# Altium footprint library connectors.PcbLib: 53 footprints (part 1 of 4)
Each footprint in its own frame and in the unit in brackets; x right, y up, seen from the top. Pads: shape width x height; smd on the part's side, far side on the other; paste and mask are expansions set on the pad; w line width, h text height; cw(c..) or ccw(c..) is an arc to the next point about the centre after c.
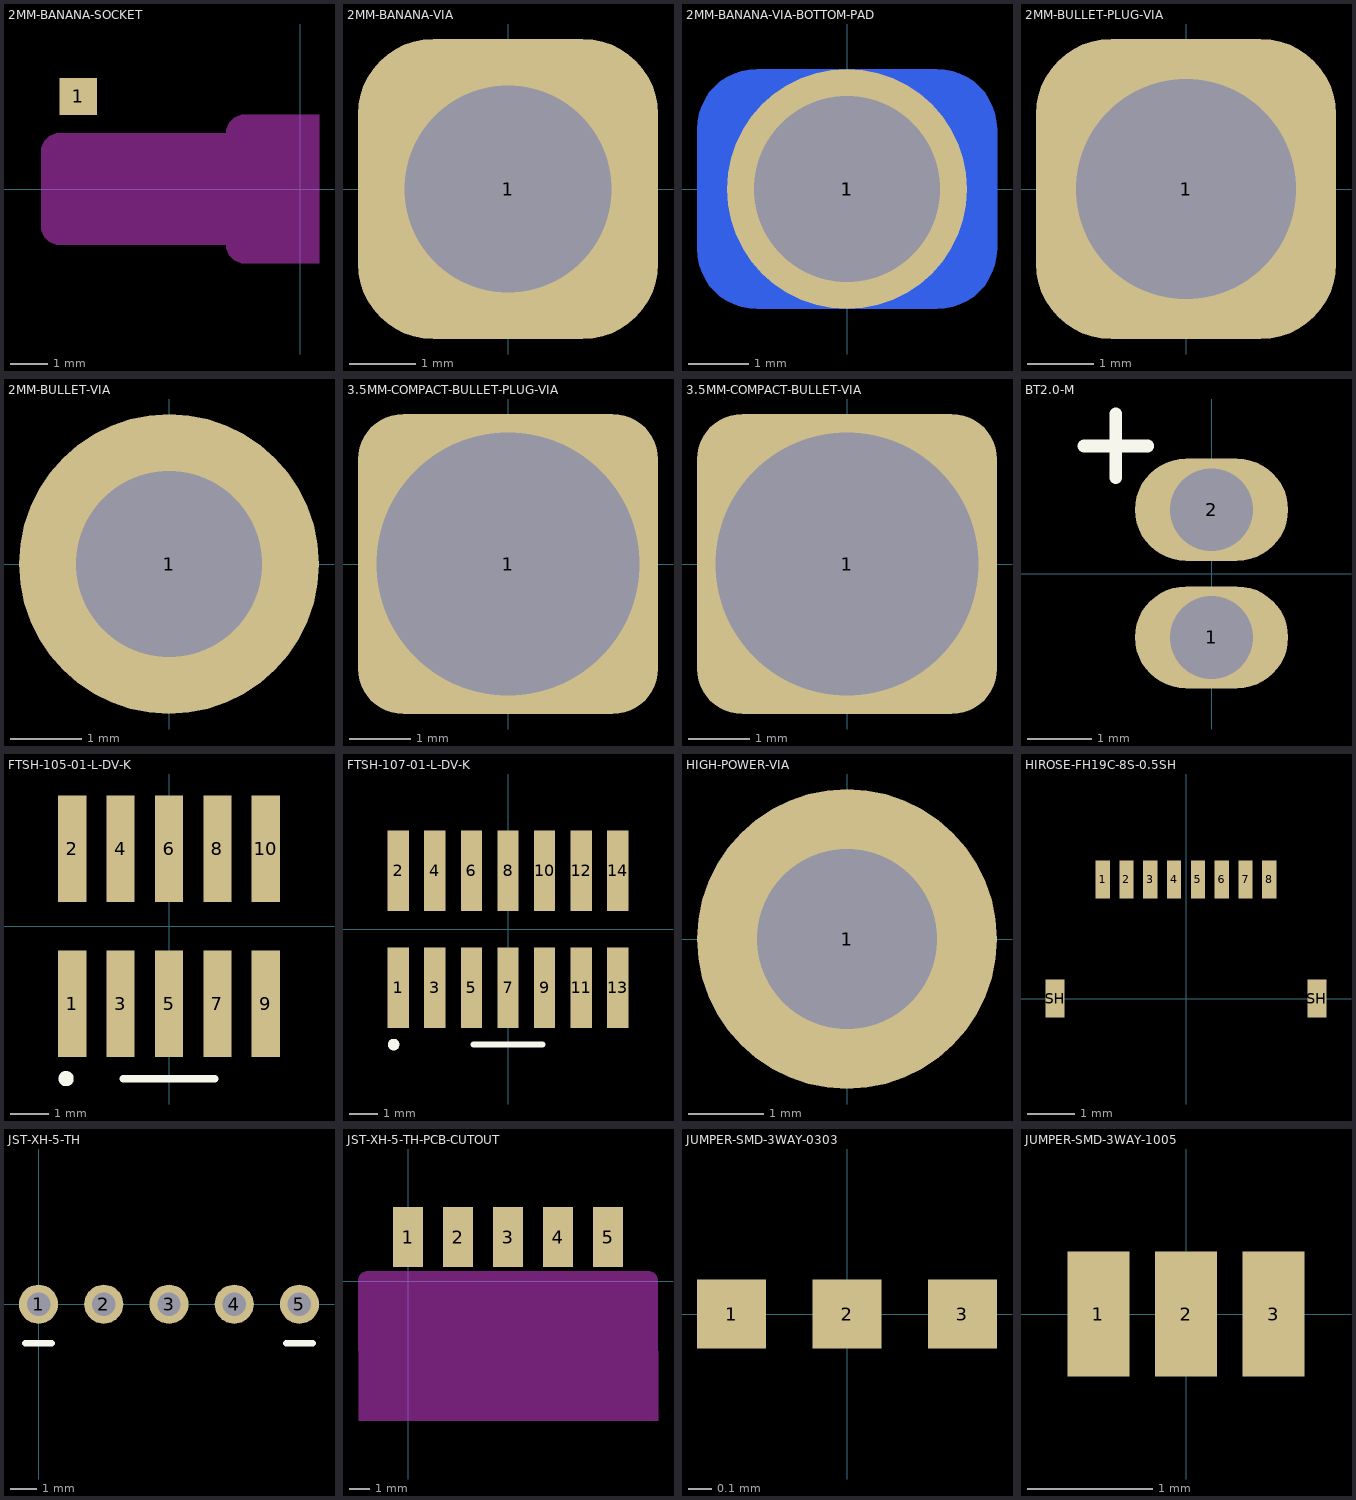
[diagram p0: the footprints below, top view; thin cyan lines are the x and y axes]

## 2MM-BANANA-SOCKET [mm]
pads (1):
  rect 1x1 all layers, no hole: 1(-6,2.5)
Keep-Out Layer:
  board cut-out: 0.5,2 0.5,-2 -1.5,-2 -1.599,-2 -1.783,-1.924 -1.924,-1.783 -2,-1.6 -2,-1.5 -6.5,-1.5 -6.599,-1.5 -6.783,-1.424 -6.924,-1.283 -7,-1.099 -7,-1 -7,1 -7,1.099 -6.924,1.283 -6.783,1.424 -6.599,1.5 -6.5,1.5 -2,1.5 -2,1.599 -1.924,1.783 -1.783,1.924 -1.599,2 -1.5,2
Multi-Layer:
  region: -7,3 -7,1.7 -7.4,1.7 -7.4,-1.7 -7,-1.7 -7,-3 -7.6,-3 -7.6,3
  region: -7.6,1.6 -7.6,3 -0.7,3 -0.7,2.1 -1.6,2.1 -1.698,2.09 -1.878,2.016 -2.016,1.878 -2.09,1.698 -2.1,1.6
  region: -7.6,-1.6 -7.6,-3 -0.7,-3 -0.7,-2.1 -1.6,-2.1 -1.698,-2.09 -1.878,-2.016 -2.016,-1.878 -2.09,-1.698 -2.1,-1.6
3D body "2mm_socket.STEP": height 2, standoff -2, extent -6,-2 0,2

## 2MM-BANANA-VIA [mm]
pads (1):
  rrect50% 4.5x4.5 hole 3.1: 1(0,0)
3D body "2mm_socket.STEP": height 1.51, standoff -4.49, extent -2,-2 2,2

## 2MM-BANANA-VIA-BOTTOM-PAD [mm]
pads (2):
  rrect50% 5x4 smd far side: 1(0,0)
  round 4 hole 3.1: 1(0,0)
3D body "2mm_socket.STEP": height 1.51, standoff -4.49, extent -2,-2 2,2

## 2MM-BULLET-PLUG-VIA [mm]
pads (1):
  rrect50% 4.5x4.5 hole 3.3: 1(0,0)

## 2MM-BULLET-VIA [mm]
pads (1):
  round 4.2 hole 2.6: 1(0,0)

## 3.5MM-COMPACT-BULLET-PLUG-VIA [mm]
pads (1):
  rrect30% 4.9x4.9 hole 4.3: 1(0,0)
3D body "bullet_connector_3.5mm_compact_plug.STEP": height 7, standoff -3, extent -2.1,-2.1 2.1,2.1

## 3.5MM-COMPACT-BULLET-VIA [mm]
pads (1):
  rrect30% 4.9x4.9 hole 4.3: 1(0,0)
3D body "bullet_connector_3.5mm_compact_socket.STEP": height 4.61, standoff -7.69, extent -2.4,-2.4 2.4,2.4

## BT2.0-M [mm]
pads (2):
  oval 2.4x1.6 hole 1.3: 1(0,-1) 2(0,1)
Top Overlay:
  lines w0.2: -2,2 -1,2 ; -1.5,1.5 -1.5,2.5
3D body "BT2_0_Connector_Male.STEP": height 8.16, standoff -2.29, extent -2.125,-3 2.125,3

## FTSH-105-01-L-DV-K [mil]
pads (10):
  rect 29x110 smd mask+2: 1(-100,-80) 2(-100,80) 3(-50,-80) 4(-50,80) 5(0,-80) 6(0,80) 7(50,-80) 8(50,80) 9(100,-80) 10(100,80)
Top Overlay:
  circle w7.87: c-106.3,-157.48 r3.94
  lines w7.87: -47.24,-157.48 47.24,-157.48
3D body "FTSH-105-01-L-DV-K.stp": height 241.5, standoff 0.5, extent -125,-115 125,115

## FTSH-107-01-L-DV-K [mil]
pads (14):
  rect 29x110 smd mask+2: 1(-150,-80) 2(-150,80) 3(-100,-80) 4(-100,80) 5(-50,-80) 6(-50,80) 7(0,-80) 8(0,80) 9(50,-80) 10(50,80) 11(100,-80) 12(100,80) 13(150,-80) 14(150,80)
Top Overlay:
  circle w7.87: c-156.3,-157.48 r3.94
  lines w7.87: -47.24,-157.48 47.24,-157.48
3D body "FTSH-107-01-L-DV-K.stp": height 241.5, standoff 0.5, extent -175,-115 174.99,115

## HIGH-POWER-VIA [mm]
pads (1):
  round 4 hole 2.4: 1(0,0)

## HIROSE-FH19C-8S-0.5SH [mm]
pads (10):
  rect 0.3x0.8 smd paste+0 mask+0.102: 1(-1.75,2.5) 2(-1.25,2.5) 3(-0.75,2.5) 4(-0.25,2.5) 5(0.25,2.5) 6(0.75,2.5) 7(1.25,2.5) 8(1.75,2.5)
  rect 0.4x0.8 smd paste+0 mask+0.102: SH(-2.75,0) SH(2.75,0)
3D body "hirose_FH19C-8S-0.5SH.step": height 0.9, standoff 0, extent -3,-0.8 3,2.7

## JST-XH-5-TH [mm]
pads (5):
  round 1.5 hole 0.9: 1(0,0) 2(2.5,0) 3(5,0) 4(7.5,0) 5(10,0)
Top Overlay:
  lines w0.254: -0.5,-1.5 0.5,-1.5 ; 9.5,-1.5 10.5,-1.5
3D body "B5B-XH-A.STEP": height 7.01, standoff -3.39, extent -2.45,-3.375 12.45,2.375

## JST-XH-5-TH-PCB-CUTOUT [mm]
pads (5):
  rect 1.5x3 smd: 1(0,2.2) 2(2.5,2.2) 3(5,2.2) 4(7.5,2.2) 5(10,2.2)
Keep-Out Layer:
  board cut-out: -2.473,-7 12.5,-7 12.5,0 12.5,0.099 12.424,0.283 12.283,0.424 12.099,0.5 12,0.5 -2.001,0.5 -2.101,0.5 -2.287,0.423 -2.429,0.28 -2.505,0.095 -2.505,-0.006
3D body "B5B-XH-A.STEP": height 2.71, standoff -3.04, extent -2.45,-7 12.45,3.4

## JUMPER-SMD-3WAY-0303 [mm]
pads (3):
  rect 0.3x0.3 smd: 1(-0.5,0) 2(0,0) 3(0.5,0)

## JUMPER-SMD-3WAY-1005 [mm]
pads (3):
  rect 0.5x1 smd: 1(-0.7,0) 2(0,0) 3(0.7,0)